# Altium schematic symbol library Logic_LevelTranslator.SchLib: 59 symbols
Pins are listed as number, name and electrical type; pins without a type are passive.

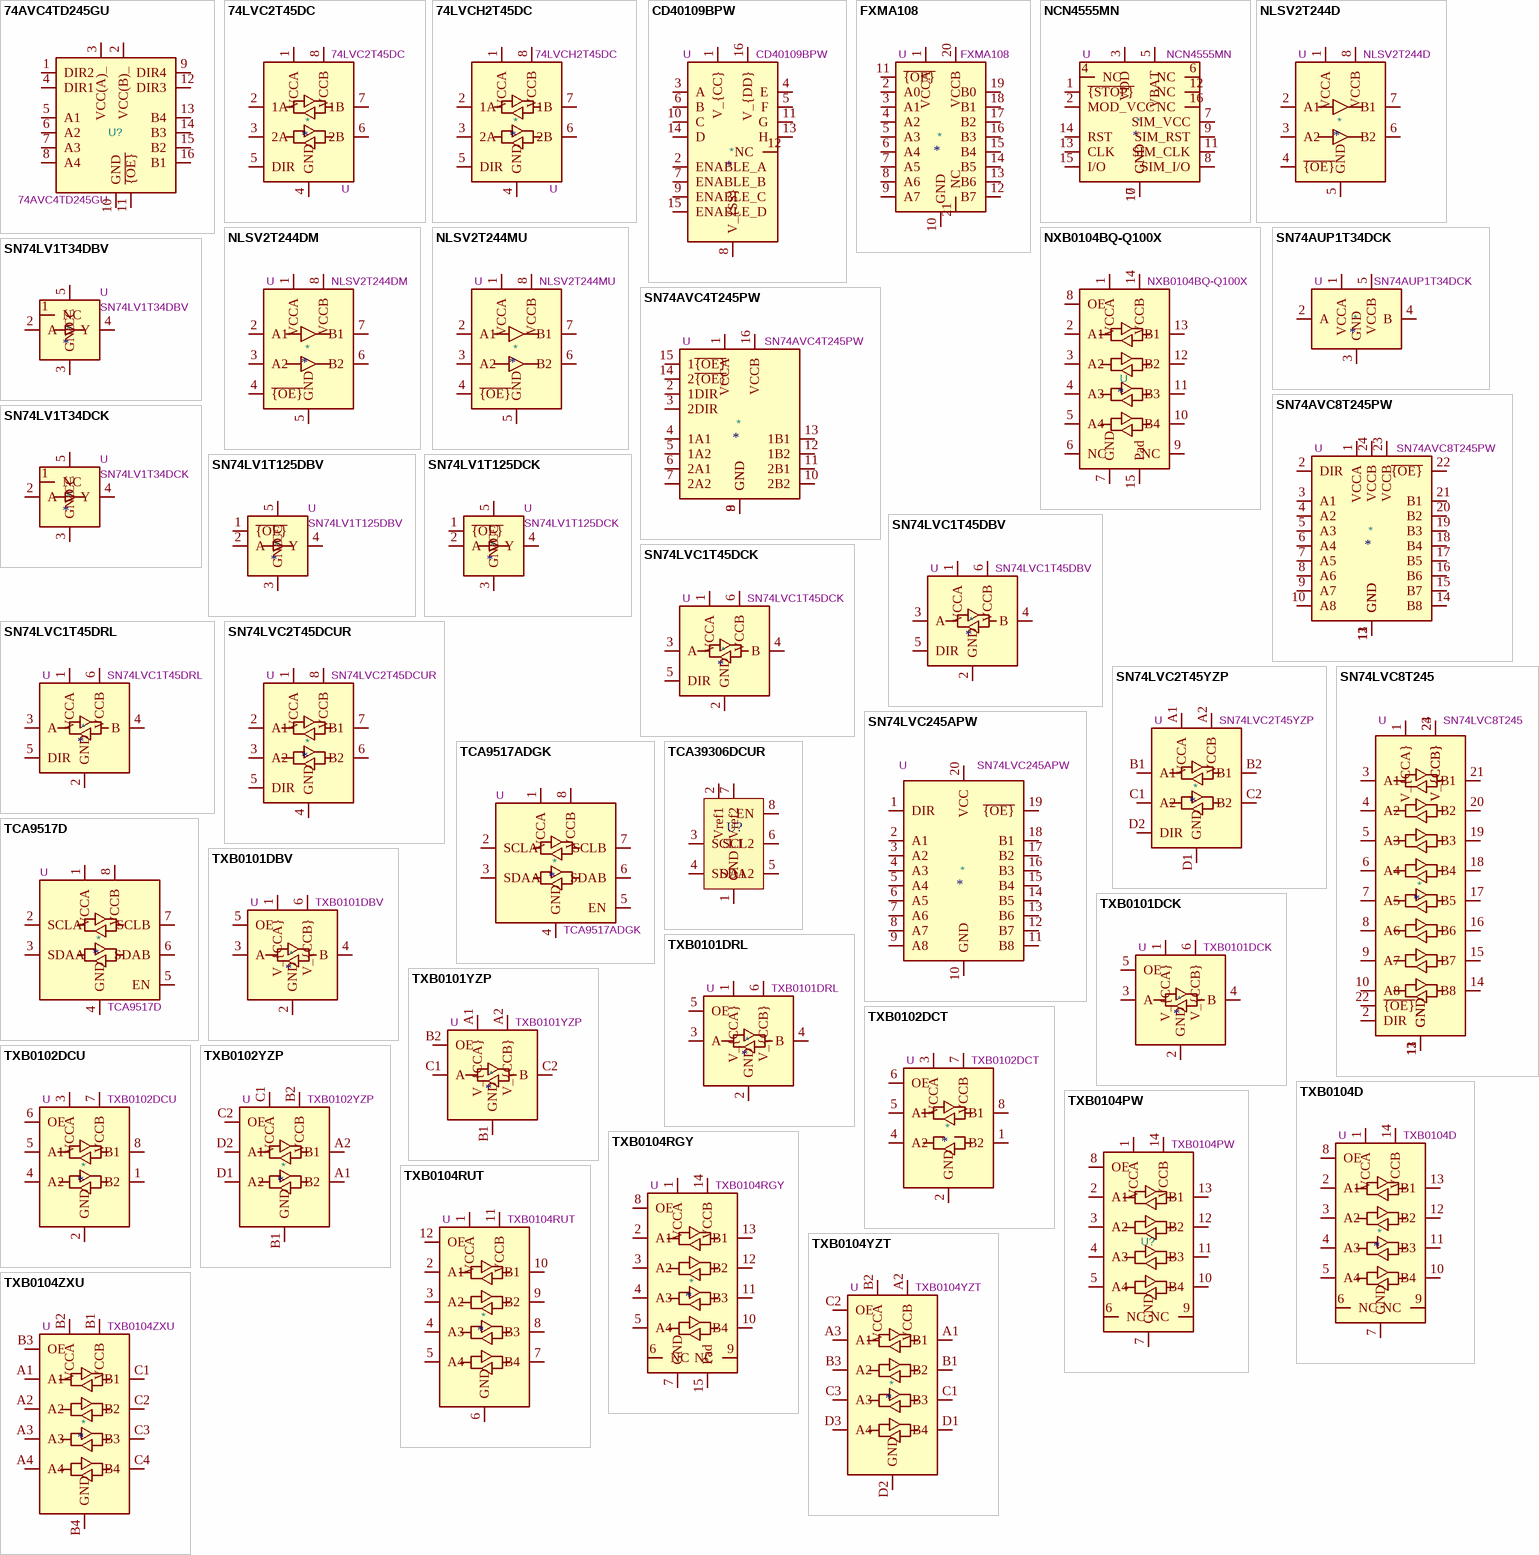
[diagram p0: symbols 74AVC4TD245GU to TXB0104ZXU]

## 74AVC4TD245GU
designator U?  value 74AVC4TD245GU  (hidden comment: *)
4-bit dual supply translating transceiver with configurable voltage translation; 3-state - XQFN16; Manufacturer: Nexperia; Manufacturer Lifecycle Status: RELEASED FOR SUPPLY; Manufacturer Part Number: 74AVC4TD245GU,115; Description_: 4-Bit Dual-Supply Bus Transceiver With Configurable Voltage Translation and 3-State Outputs, TSSOP-16; ki_keywords: Noninverting Bidirectional; ki_fp_filters: XQFN-16_2.6x1.8mm_P0.4mm; Reference: U; Channel Type: Bidirectional; Data Rate: 380Mbps; High Level Output Current: -12mA; Load Capacitance: 15pF; Logic Function: Translator; Low Level Output Current: 6mA; Max Supply Current: 100mA; Max Supply Voltage: 3.6V; Min Supply Voltage: 800mV; Nominal Supply Voltage (DC): 1.2V; Number of Bits: 4; Number of Circuits: 1; Number of Ports: 2; Propagation Delay: 10.9ns; Quiescent Current: 70µA; Footprint: Package_SO:TSSOP-16_4.4x5mm_P0.65mm; Datasheet: https://www.ti.com/lit/ds/symlink/sn74avc4t245.pdf; Category: Voltage Level Shifters; China RoHS: Compliant; Country of Origin: Thailand; Direction: Bidirectional; Harmonized Tariff Schedule (HTS) Code: 8542.39.00.60; Height - Seated (Max): 500µm; Introduction Date: 2011-05-03; Length: 2.6mm; Lifecycle Status: Production; Max Operating Temperature: 125°C; Min Operating Temperature: -40°C; Mounting Technology: Surface Mount; Pins: 16; Number of Terminals: 16; Packaging: Tape and Reel; Radiation Hardening: No; REACH SVHC: Yes; RoHS: Compliant; Schedule B: 8542390000, 8542390000|8542390000|8542390000|8542390000|8542390000; Temperature Grade: Automotive; Terminal Pitch: 400µm; Width: 1.8mm; Supplier 1: Mouser; Supplier Part Number 1: 771-74AVC4TD245GU115; Supplier Packaging 1: Tape & Reel; Supplier Unit Price 1: $0.91; Supplier Location 1: US; DNP: *
footprint XQFN-16_2.6x1.8mm_P0.4mm
pins: 1 DIR2, 2 VCC(B)_, 3 VCC(A)_, 4 DIR1, 5 A1, 6 A2, 7 A3, 8 A4, 9 DIR4, 10 GND, 11 ~{{OE}}, 12 DIR3, 13 B4, 14 B3, 15 B2, 16 B1

## 74LVC2T45DC
designator *  value 74LVC2T45DC  Reference: U
Dual supply translating transceiver, 3-state, 2-bit, VSSOP-8; ki_keywords: Level-Shifter CMOS-TTL-Translation; ki_fp_filters: VSSOP*2.3x2mm*P0.5mm*; Footprint: Package_SO:VSSOP-8_2.3x2mm_P0.5mm; Datasheet: https://assets.nexperia.com/documents/data-sheet/74LVC_LVCH2T45.pdf; Description_: Dual supply translating transceiver, 3-state, 2-bit, VSSOP-8
pins: 1 VCCA, 2 1A, 3 2A, 4 GND, 5 DIR, 6 2B, 7 1B, 8 VCCB

## 74LVCH2T45DC
designator *  value 74LVCH2T45DC  Reference: U
Dual supply translating transceiver with bus-hold for unused/floating inputs, 3-state, 2-bit, VSSOP-8; ki_keywords: Level-Shifter CMOS-TTL-Translation; ki_fp_filters: VSSOP*2.3x2mm*P0.5mm*; Footprint: Package_SO:VSSOP-8_2.3x2mm_P0.5mm; Datasheet: https://assets.nexperia.com/documents/data-sheet/74LVC_LVCH2T45.pdf; Description_: Dual supply translating transceiver with bus-hold for unused/floating inputs, 3-state, 2-bit, VSSOP-8
pins: 1 VCCA, 2 1A, 3 2A, 4 GND, 5 DIR, 6 2B, 7 1B, 8 VCCB

## CD40109BPW
designator *  value CD40109BPW  Reference: U
CMOS Quad Low to High Voltage Level Shifter, Input 3 to 18V, up to 18V output , TSSOP-16; ki_fp_filters: TSSOP*4.4x5mm*P0.65mm*; Footprint: Package_SO:TSSOP-16_4.4x5mm_P0.65mm; Datasheet: https://www.ti.com/lit/ds/symlink/cd40109b.pdf; Description_: CMOS Quad Low to High Voltage Level Shifter, Input 3 to 18V, up to 18V output , TSSOP-16; ki_keywords: voltage level shifter
pins: 1 V_{CC}, 2 ENABLE_A, 3 A, 4 E, 5 F, 6 B, 7 ENABLE_B, 8 V_{SS}, 9 ENABLE_C, 10 C, 11 G, 12 NC, 13 H, 14 D, 15 ENABLE_D, 16 V_{DD}

## FXMA108
designator *  value FXMA108  Reference: U
Dual-Supply, 8-Bit Signal Translator with Configurable Voltage Supplies and Signals Levels, 3-State Outputs and Auto Direction Sensing, WQFN-20; ki_keywords: Level shifter translator bidirectional; ki_fp_filters: WQFN*1EP*2.5x4.5mm*P0.5mm*; Footprint: Package_DFN_QFN:WQFN-20-1EP_2.5x4.5mm_P0.5mm_EP1x2.9mm; Datasheet: http://www.onsemi.com/pub/Collateral/FXMA108-D.pdf; Description_: Dual-Supply, 8-Bit Signal Translator with Configurable Voltage Supplies and Signals Levels, 3-State Outputs and Auto Direction Sensing, WQFN-20
pins: 1 VCCA, 2 A0, 3 A1, 4 A2, 5 A3, 6 A4, 7 A5, 8 A6, 9 A7, 10 GND, 11 ~{{OE}}, 12 B7, 13 B6, 14 B5, 15 B4, 16 B3, 17 B2, 18 B1, 19 B0, 20 VCCB, 21 NC

## NCN4555MN
designator *  value NCN4555MN  Reference: U
SIM Card Power Supply and Level Shifter, QFN-16; ki_keywords: SIM Card Level Shifter; ki_fp_filters: QFN*1EP*3x3mm*P0.5mm*; Footprint: Package_DFN_QFN:QFN-16-1EP_3x3mm_P0.5mm_EP1.75x1.75mm; Datasheet: https://www.onsemi.com/pub/Collateral/NCN4555-D.PDF; Description_: SIM Card Power Supply and Level Shifter, QFN-16
pins: 1 ~{{STOP}}, 2 MOD_VCC, 3 VDD, 4 NC, 5 VBAT, 6 NC, 7 SIM_VCC, 8 SIM_I/O, 9 SIM_RST, 10 GND, 11 SIM_CLK, 12 NC, 13 CLK, 14 RST, 15 I/O, 16 NC, 17 GND

## NLSV2T244D
designator *  value NLSV2T244D  Reference: U
Dual-Bit Dual-Supply Non-Inverting Level Translator, Output Enable, SOIC-8; ki_keywords: Level-Shifter CMOS-TTL-Translation; ki_fp_filters: SOIC*3.9x4.9mm*P1.27mm*; Footprint: Package_SO:SOIC-8_3.9x4.9mm_P1.27mm; Datasheet: http://www.onsemi.com/pub/Collateral/NLSV2T244-D.PDF; Description_: Dual-Bit Dual-Supply Non-Inverting Level Translator, Output Enable, SOIC-8
pins: 1 VCCA, 2 A1, 3 A2, 4 ~{{OE}}, 5 GND, 6 B2, 7 B1, 8 VCCB

## NLSV2T244DM
designator *  value NLSV2T244DM  Reference: U
Dual-Bit Dual-Supply Non-Inverting Level Translator, Output Enable, MSOP-8; ki_keywords: Level-Shifter CMOS-TTL-Translation; ki_fp_filters: MSOP*3x3mm*P0.65mm*; Footprint: Package_SO:MSOP-8_3x3mm_P0.65mm; Datasheet: http://www.onsemi.com/pub/Collateral/NLSV2T244-D.PDF; Description_: Dual-Bit Dual-Supply Non-Inverting Level Translator, Output Enable, MSOP-8
pins: 1 VCCA, 2 A1, 3 A2, 4 ~{{OE}}, 5 GND, 6 B2, 7 B1, 8 VCCB

## NLSV2T244MU
designator *  value NLSV2T244MU  Reference: U
Dual-Bit Dual-Supply Non-Inverting Level Translator, Output Enable, UDFN-8; ki_keywords: Level-Shifter CMOS-TTL-Translation; ki_fp_filters: OnSemi*UDFN*1.2x1.8mm*P0.4mm*; Footprint: Package_DFN_QFN:OnSemi_UDFN-8_1.2x1.8mm_P0.4mm; Datasheet: http://www.onsemi.com/pub/Collateral/NLSV2T244-D.PDF; Description_: Dual-Bit Dual-Supply Non-Inverting Level Translator, Output Enable, UDFN-8
pins: 1 VCCA, 2 A1, 3 A2, 4 ~{{OE}}, 5 GND, 6 B2, 7 B1, 8 VCCB

## NXB0104BQ-Q100X
designator U  value NXB0104BQ-Q100X
4-Bit Bidirectional Voltage-Level Translator, Auto Direction Sensing and ±15-kV ESD Protection, 1.2 - 3.6V APort, 1.65 - 5.5V BPort, NXB_ / DHVQFN-14; Manufacturer: Nexperia; Manufacturer Lifecycle Status: RELEASED FOR SUPPLY; Description_: 4-Bit Bidirectional Voltage-Level Translator, Auto Direction Sensing and ±15-kV ESD Protection, 1.2 - 3.6V APort, 1.65 - 5.5V BPort, Texas_PVGFN-14; ki_keywords: Level-Shifter CMOS-TTL-Translation; ki_fp_filters: Texas*S*PVQFN*N14*; Reference: U; DNP: P; Footprint: Package_DFN_QFN:Texas_S-PVQFN-N14; Datasheet: http://www.ti.com/lit/ds/symlink/txb0104.pdf; Category: Voltage Level Shifters; Lifecycle Status: Production; Manufacturer Part Number: NXB0104BQ-Q100X; RoHS: Compliant; Supplier 1: Mouser; Supplier Part Number 1: 771-NXB0104BQ-Q100X; Supplier Packaging 1: Tape & Reel; Supplier Unit Price 1: $0.73; Supplier Location 1: US
footprint DHVQFN-14-1EP_2.5x3mm_P0.5mm_EP1x1.5mm
pins: 1 VCCA, 2 A1, 3 A2, 4 A3, 5 A4, 6 NC, 7 GND, 8 OE, 9 NC, 10 B4, 11 B3, 12 B2, 13 B1, 14 VCCB, 15 Pad

## SN74AUP1T34DCK
designator *  value SN74AUP1T34DCK  Reference: U
1-Bit Unidirectional Voltage-Level Translator, SC-70; ki_keywords: Noninverting; ki_fp_filters: SOT*353*; Footprint: Package_TO_SOT_SMD:SOT-353_SC-70-5; Datasheet: http://www.ti.com/lit/ds/symlink/sn74aup1t34.pdf; Description_: 1-Bit Unidirectional Voltage-Level Translator, SC-70
pins: 1 VCCA, 2 A, 3 GND, 4 B, 5 VCCB

## SN74AVC4T245PW
designator *  value SN74AVC4T245PW  Reference: U
4-Bit Dual-Supply Bus Transceiver With Configurable Voltage Translation and 3-State Outputs, TSSOP-16; ki_keywords: Noninverting Bidirectional; ki_fp_filters: TSSOP*4.4x5mm*P0.65mm*; Footprint: Package_SO:TSSOP-16_4.4x5mm_P0.65mm; Datasheet: https://www.ti.com/lit/ds/symlink/sn74avc4t245.pdf; Description_: 4-Bit Dual-Supply Bus Transceiver With Configurable Voltage Translation and 3-State Outputs, TSSOP-16
pins: 1 VCCA, 2 1DIR, 3 2DIR, 4 1A1, 5 1A2, 6 2A1, 7 2A2, 8 GND, 9 GND, 10 2B2, 11 2B1, 12 1B2, 13 1B1, 14 2~{{OE}}, 15 1~{{OE}}, 16 VCCB

## SN74AVC8T245PW
designator *  value SN74AVC8T245PW  Reference: U
8-Bit Dual-Supply Bus Transceiver With Configurable Voltage Translation and 3-State Outputs, TSSOP-24; ki_keywords: Noninverting Bidirectional; ki_fp_filters: TSSOP*4.4x7.8mm*P0.65mm*; Footprint: Package_SO:TSSOP-24_4.4x7.8mm_P0.65mm; Datasheet: https://www.ti.com/lit/ds/symlink/sn74avc8t245.pdf; Description_: 8-Bit Dual-Supply Bus Transceiver With Configurable Voltage Translation and 3-State Outputs, TSSOP-24
pins: 1 VCCA, 2 DIR, 3 A1, 4 A2, 5 A3, 6 A4, 7 A5, 8 A6, 9 A7, 10 A8, 11 GND, 12 GND, 13 GND, 14 B8, 15 B7, 16 B6, 17 B5, 18 B4, 19 B3, 20 B2, 21 B1, 22 ~{{OE}}, 23 VCCB, 24 VCCB

## SN74LV1T34DBV
designator *  value SN74LV1T34DBV  Reference: U
Single Power Supply, Single Buffer GATE, CMOS Logic, Level Shifter, SOT-23-5; ki_keywords: single buffer level shift; ki_fp_filters: SOT?23*; Footprint: Package_TO_SOT_SMD:SOT-23-5; Datasheet: https://www.ti.com/lit/ds/symlink/sn74lv1t34.pdf; Description_: Single Power Supply, Single Buffer GATE, CMOS Logic, Level Shifter, SOT-23-5
pins: 1 NC, 2 A, 3 GND, 4 Y, 5 VCC

## SN74LV1T34DCK
designator *  value SN74LV1T34DCK  Reference: U
Single Power Supply, Single Buffer GATE, CMOS Logic, Level Shifter, SOT-353; ki_keywords: single buffer level shift; ki_fp_filters: SOT?353*; Footprint: Package_TO_SOT_SMD:SOT-353_SC-70-5; Datasheet: https://www.ti.com/lit/ds/symlink/sn74lv1t34.pdf; Description_: Single Power Supply, Single Buffer GATE, CMOS Logic, Level Shifter, SOT-353
pins: 1 NC, 2 A, 3 GND, 4 Y, 5 VCC

## SN74LV1T125DBV
designator *  value SN74LV1T125DBV  Reference: U
Single Power Supply, Single Buffer Gate with 3-State Output, CMOS Logic Level Shifter Level Shifter, SOT-23-5; ki_keywords: single buffer level shift; ki_fp_filters: SOT?23*; Footprint: Package_TO_SOT_SMD:SOT-23-5; Datasheet: https://www.ti.com/lit/ds/symlink/sn74lv1t125.pdf; Description_: Single Power Supply, Single Buffer Gate with 3-State Output, CMOS Logic Level Shifter Level Shifter, SOT-23-5
pins: 1 ~{{OE}}, 2 A, 3 GND, 4 Y, 5 VCC

## SN74LV1T125DCK
designator *  value SN74LV1T125DCK  Reference: U
Single Power Supply, Single Buffer Gate with 3-State Output, CMOS Logic Level Shifter Level Shifter, SC70-5; ki_keywords: single buffer level shift; ki_fp_filters: SOT?353*; Footprint: Package_TO_SOT_SMD:SOT-353_SC-70-5; Datasheet: https://www.ti.com/lit/ds/symlink/sn74lv1t125.pdf; Description_: Single Power Supply, Single Buffer Gate with 3-State Output, CMOS Logic Level Shifter Level Shifter, SC70-5
pins: 1 ~{{OE}}, 2 A, 3 GND, 4 Y, 5 VCC

## SN74LVC1T45DBV
designator *  value SN74LVC1T45DBV  Reference: U
Single-Bit Dual-Supply Bus Transceiver With Configurable Voltage Translation and 3-State Outputs, SOT-23-6; ki_keywords: Level-Shifter CMOS-TTL-Translation; ki_fp_filters: SOT?23*; Footprint: Package_TO_SOT_SMD:SOT-23-6; Datasheet: http://www.ti.com/lit/ds/symlink/sn74lvc1t45.pdf; Description_: Single-Bit Dual-Supply Bus Transceiver With Configurable Voltage Translation and 3-State Outputs, SOT-23-6
pins: 1 VCCA, 2 GND, 3 A, 4 B, 5 DIR, 6 VCCB

## SN74LVC1T45DCK
designator *  value SN74LVC1T45DCK  Reference: U
Single-Bit Dual-Supply Bus Transceiver With Configurable Voltage Translation and 3-State Outputs, SOT-363; ki_keywords: Level-Shifter CMOS-TTL-Translation; ki_fp_filters: *SC?70*; Footprint: Package_TO_SOT_SMD:SOT-363_SC-70-6; Datasheet: http://www.ti.com/lit/ds/symlink/sn74lvc1t45.pdf; Description_: Single-Bit Dual-Supply Bus Transceiver With Configurable Voltage Translation and 3-State Outputs, SOT-363
pins: 1 VCCA, 2 GND, 3 A, 4 B, 5 DIR, 6 VCCB

## SN74LVC1T45DRL
designator *  value SN74LVC1T45DRL  Reference: U
Single-Bit Dual-Supply Bus Transceiver With Configurable Voltage Translation and 3-State Outputs, SOT-563; ki_keywords: Level-Shifter CMOS-TTL-Translation; ki_fp_filters: *SOT?563*; Footprint: Package_TO_SOT_SMD:SOT-563; Datasheet: http://www.ti.com/lit/ds/symlink/sn74lvc1t45.pdf; Description_: Single-Bit Dual-Supply Bus Transceiver With Configurable Voltage Translation and 3-State Outputs, SOT-563
pins: 1 VCCA, 2 GND, 3 A, 4 B, 5 DIR, 6 VCCB

## SN74LVC2T45DCUR
designator *  value SN74LVC2T45DCUR  Reference: U
Dual-Bit Dual-Supply Bus Transceiver With Configurable Voltage Translation and 3-State Outputs, VSSOP-8; ki_keywords: Level-Shifter CMOS-TTL-Translation; ki_fp_filters: VSSOP*2.3x2mm*P0.5mm*; Footprint: Package_SO:VSSOP-8_2.3x2mm_P0.5mm; Datasheet: http://www.ti.com/lit/ds/symlink/sn74lvc2t45.pdf; Description_: Dual-Bit Dual-Supply Bus Transceiver With Configurable Voltage Translation and 3-State Outputs, VSSOP-8
pins: 1 VCCA, 2 A1, 3 A2, 4 GND, 5 DIR, 6 B2, 7 B1, 8 VCCB

## SN74LVC2T45YZP
designator *  value SN74LVC2T45YZP  Reference: U
Dual-Bit Dual-Supply Bus Transceiver With Configurable Voltage Translation and 3-State Outputs, DSBGA-8; ki_keywords: Level-Shifter CMOS-TTL-Translation; ki_fp_filters: Texas*DSBGA*0.9x1.9mm*Layout2x4*P0.5mm*; Footprint: Package_BGA:Texas_DSBGA-8_0.9x1.9mm_Layout2x4_P0.5mm; Datasheet: http://www.ti.com/lit/ds/symlink/sn74lvc2t45.pdf; Description_: Dual-Bit Dual-Supply Bus Transceiver With Configurable Voltage Translation and 3-State Outputs, DSBGA-8
pins: A1 VCCA, A2 VCCB, B1 A1, B2 B1, C1 A2, C2 B2, D1 GND, D2 DIR

## SN74LVC8T245
designator *  value SN74LVC8T245  Reference: U
8-Bit Dual-Supply Bus Transceiver With Configurable Voltage Translation and 3-State Outputs; ki_keywords: Dual Supply Level-Shifter CMOS-TTL-Translation; ki_fp_filters: SSOP*5.3x8.2mm* SSOP*3.9x8.7mm* TSSOP*4.4x7.8mm* TVSOP*4.4x5.0mm* Texas*VQFN*RHL*; Datasheet: https://www.ti.com/lit/ds/symlink/sn74lvc8t245.pdf; Description_: 8-Bit Dual-Supply Bus Transceiver With Configurable Voltage Translation and 3-State Outputs
pins: 1 V_{CCA}, 2 DIR, 3 A1, 4 A2, 5 A3, 6 A4, 7 A5, 8 A6, 9 A7, 10 A8, 11 GND, 12 GND, 13 GND, 14 B8, 15 B7, 16 B6, 17 B5, 18 B4, 19 B3, 20 B2, 21 B1, 22 ~{{OE}}, 23 V_{CCB}, 24 V_{CCB}

## SN74LVC245APW
designator *  value SN74LVC245APW  Reference: U
8-Bit Single-Supply Bus Transceiver With 5V tolerant input voltage and 3-State Outputs 24mA, TSSOP-20; ki_keywords: Noninverting Bidirectional; ki_fp_filters: TSSOP*4.4x6.5mm*P0.65mm*; Footprint: Package_SO:TSSOP-20_4.4x6.5mm_P0.65mm; Datasheet: https://www.ti.com/lit/ds/scas218x/scas218x.pdf; Description_: 8-Bit Single-Supply Bus Transceiver With 5V tolerant input voltage and 3-State Outputs 24mA, TSSOP-20
pins: 1 DIR, 2 A1, 3 A2, 4 A3, 5 A4, 6 A5, 7 A6, 8 A7, 9 A8, 10 GND, 11 B8, 12 B7, 13 B6, 14 B5, 15 B4, 16 B3, 17 B2, 18 B1, 19 ~{{OE}}, 20 VCC

## TCA9517ADGK
designator *  value TCA9517ADGK  Reference: U
Level-Translating I2C Bus Buffer/Repeater, VSSOP-8; ki_keywords: I2C buffer repeater; ki_fp_filters: VSSOP*3x3mm*P0.65mm*; Footprint: Package_SO:VSSOP-8_3x3mm_P0.65mm; Datasheet: https://www.ti.com/lit/ds/symlink/tca9517a.pdf; Description_: Level-Translating I2C Bus Buffer/Repeater, VSSOP-8
pins: 1 VCCA, 2 SCLA, 3 SDAA, 4 GND, 5 EN, 6 SDAB, 7 SCLB, 8 VCCB

## TCA9517D
designator *  value TCA9517D  Reference: U
Level-Translating I2C Bus Buffer/Repeater With Enable Function, SOIC-8; ki_keywords: I2C buffer repeater; ki_fp_filters: SOIC*8*3.9x4.9mm*P1.27mm*; Footprint: Package_SO:SOIC-8_3.9x4.9mm_P1.27mm; Datasheet: https://www.ti.com/lit/ds/symlink/tca9517.pdf; Description_: Level-Translating I2C Bus Buffer/Repeater With Enable Function, SOIC-8
pins: 1 VCCA, 2 SCLA, 3 SDAA, 4 GND, 5 EN, 6 SDAB, 7 SCLB, 8 VCCB

## TCA39306DCUR
designator U?  (value not drawn)
Translation - Voltage Levels FM+ I C bus and SMBu s voltage translato; Manufacturer: Texas Instruments; Manufacturer Lifecycle Status: ACTIVE; Value: TCA39306DCUR; Frequency: 12.5MHz; Max Junction Temperature (Tj): 150°C; Number of Circuits: 1; ComponentLink1Description: Datasheet; ComponentLink1URL: https://www.ti.com/lit/ds/symlink/tca39306-q1.pdf?ts=1791250636748&ref_url=https%253A%252F%252Fwww.mouser.in%252F; Ambient Temperature Range High: 125°C; Case/Package: VSSOP; Category: Voltage Level Shifters; Height: 900µm; Length: 2.3mm; Lifecycle Status: Production; Manufacturer Part Number: TCA39306DCUR; Max Operating Temperature: 125°C; Min Operating Temperature: -40°C; Number of Pins: 8; RoHS: Compliant; Thickness: 850µm; Width: 2mm; Supplier 1: DigiKey; Supplier Part Number 1: 296-TCA39306DCURCT-ND; Supplier Packaging 1: Cut Tape; Supplier Unit Price 1: $1.39; Supplier Location 1: US
footprint VSSOP-8_2.3x2mm_P0.5mm
pins: 1 GND (power), 2 Vref1, 3 SCL1, 4 SDA1, 5 SDA2, 6 SCL2, 7 Vref2, 8 EN

## TXB0101DBV
designator *  value TXB0101DBV  Reference: U
1-Bit Bidirectional Voltage-Level Translator With Auto Direction Sensing and ±15-kV ESD Protection, SOT-23-6; ki_keywords: bidirectional voltage level translator; ki_fp_filters: SOT?23?6*; Footprint: Package_TO_SOT_SMD:SOT-23-6; Datasheet: http://www.ti.com/lit/ds/symlink/txb0101.pdf; Description_: 1-Bit Bidirectional Voltage-Level Translator With Auto Direction Sensing and ±15-kV ESD Protection, SOT-23-6
pins: 1 V_{CCA}, 2 GND, 3 A, 4 B, 5 OE, 6 V_{CCB}

## TXB0101DCK
designator *  value TXB0101DCK  Reference: U
1-Bit Bidirectional Voltage-Level Translator With Auto Direction Sensing and ±15-kV ESD Protection, SC-70-6; ki_keywords: bidirectional voltage level translator; ki_fp_filters: *SC?70?6*; Footprint: Package_TO_SOT_SMD:SOT-363_SC-70-6; Datasheet: http://www.ti.com/lit/ds/symlink/txb0101.pdf; Description_: 1-Bit Bidirectional Voltage-Level Translator With Auto Direction Sensing and ±15-kV ESD Protection, SC-70-6
pins: 1 V_{CCA}, 2 GND, 3 A, 4 B, 5 OE, 6 V_{CCB}

## TXB0101DRL
designator *  value TXB0101DRL  Reference: U
1-Bit Bidirectional Voltage-Level Translator With Auto Direction Sensing and ±15-kV ESD Protection, SOT-563; ki_keywords: bidirectional voltage level translator; ki_fp_filters: SOT?563*; Footprint: Package_TO_SOT_SMD:SOT-563; Datasheet: http://www.ti.com/lit/ds/symlink/txb0101.pdf; Description_: 1-Bit Bidirectional Voltage-Level Translator With Auto Direction Sensing and ±15-kV ESD Protection, SOT-563
pins: 1 V_{CCA}, 2 GND, 3 A, 4 B, 5 OE, 6 V_{CCB}

## TXB0101YZP
designator *  value TXB0101YZP  Reference: U
1-Bit Bidirectional Voltage-Level Translator With Auto Direction Sensing and ±15-kV ESD Protection, DSBGA-6; ki_keywords: bidirectional voltage level translator; ki_fp_filters: *DSBGA?6*; Footprint: Package_BGA:Texas_DSBGA-6_0.9x1.4mm_Layout2x3_P0.5mm; Datasheet: http://www.ti.com/lit/ds/symlink/txb0101.pdf; Description_: 1-Bit Bidirectional Voltage-Level Translator With Auto Direction Sensing and ±15-kV ESD Protection, DSBGA-6
pins: A1 V_{CCA}, A2 V_{CCB}, B1 GND, B2 OE, C1 A, C2 B

## TXB0102DCT
designator *  value TXB0102DCT  Reference: U
2-Bit Bidirectional Voltage-Level Translator With Auto Direction Sensing and ±15-kV ESD Protection, TSSOP-8; ki_keywords: Level-Shifter CMOS-TTL-Translation; ki_fp_filters: TSSOP*P0.65mm*; Footprint: Package_SO:TSSOP-8_3x3mm_P0.65mm; Datasheet: http://www.ti.com/lit/ds/symlink/txb0102.pdf; Description_: 2-Bit Bidirectional Voltage-Level Translator With Auto Direction Sensing and ±15-kV ESD Protection, TSSOP-8
pins: 1 B2, 2 GND, 3 VCCA, 4 A2, 5 A1, 6 OE, 7 VCCB, 8 B1

## TXB0102DCU
designator *  value TXB0102DCU  Reference: U
2-Bit Bidirectional Voltage-Level Translator With Auto Direction Sensing and ±15-kV ESD Protection, VSSOP-8; ki_keywords: Level-Shifter CMOS-TTL-Translation; ki_fp_filters: VSSOP*2.3x2mm*P0.5mm*; Footprint: Package_SO:VSSOP-8_2.3x2mm_P0.5mm; Datasheet: http://www.ti.com/lit/ds/symlink/txb0102.pdf; Description_: 2-Bit Bidirectional Voltage-Level Translator With Auto Direction Sensing and ±15-kV ESD Protection, VSSOP-8
pins: 1 B2, 2 GND, 3 VCCA, 4 A2, 5 A1, 6 OE, 7 VCCB, 8 B1

## TXB0102YZP
designator *  value TXB0102YZP  Reference: U
2-Bit Bidirectional Voltage-Level Translator With Auto Direction Sensing and ±15-kV ESD Protection, DSBGA-8; ki_keywords: Level-Shifter CMOS-TTL-Translation; ki_fp_filters: Texas*DSBGA*0.9x1.9mm*Layout2x4*P0.5mm*; Footprint: Package_BGA:Texas_DSBGA-8_0.9x1.9mm_Layout2x4_P0.5mm; Datasheet: http://www.ti.com/lit/ds/symlink/txb0102.pdf; Description_: 2-Bit Bidirectional Voltage-Level Translator With Auto Direction Sensing and ±15-kV ESD Protection, DSBGA-8
pins: A1 B2, A2 B1, B1 GND, B2 VCCB, C1 VCCA, C2 OE, D1 A2, D2 A1

## TXB0104D
designator *  value TXB0104D  Reference: U
4-Bit Bidirectional Voltage-Level Translator, Auto Direction Sensing and ±15-kV ESD Protection, 1.2 - 3.6V APort, 1.65 - 5.5V BPort, SOIC-14; ki_keywords: Level-Shifter CMOS-TTL-Translation; ki_fp_filters: SOIC*14*7mm*P1.27mm*; Footprint: Package_SO:SOIC-14_3.9x8.7mm_P1.27mm; Datasheet: http://www.ti.com/lit/ds/symlink/txb0104.pdf; Description_: 4-Bit Bidirectional Voltage-Level Translator, Auto Direction Sensing and ±15-kV ESD Protection, 1.2 - 3.6V APort, 1.65 - 5.5V BPort, SOIC-14
pins: 1 VCCA, 2 A1, 3 A2, 4 A3, 5 A4, 6 NC, 7 GND, 8 OE, 9 NC, 10 B4, 11 B3, 12 B2, 13 B1, 14 VCCB

## TXB0104PW
designator U?  value TXB0104PW  (hidden comment: *)
4-Bit Bidirectional Voltage-Level Translator, Auto Direction Sensing and ±15-kV ESD Protection, 1.2 - 3.6V APort, 1.65 - 5.5V BPort, TSSOP-14; Manufacturer: Texas Instruments; Manufacturer Lifecycle Status: ACTIVE; Manufacturer Part Number: TXB0104PWR; ki_keywords: Level-Shifter CMOS-TTL-Translation; ki_fp_filters: TSSOP*14*5mm*P0.65mm*; Reference: U; Data Rate: 100Mbps; High Level Output Current: -20µA; Low Level Output Current: 20µA; Max Junction Temperature (Tj): 150°C; Min Supply Voltage: 1.2V; Nominal Supply Current: 5µA; Number of Bits: 4; Number of Circuits: 1; Propagation Delay: 4ns; Quiescent Current: 3.5µA; Rise Time: 700ps; Topology: Push-Pull; Turn-On Delay Time: 31ns; DNP: P; Footprint: Package_SO:TSSOP-14_4.4x5mm_P0.65mm; Datasheet: http://www.ti.com/lit/ds/symlink/txb0104.pdf; Description_: 4-Bit Bidirectional Voltage-Level Translator, Auto Direction Sensing and ±15-kV ESD Protection, 1.2 - 3.6V APort, 1.65 - 5.5V BPort, TSSOP-14; Ambient Temperature Range High: 85°C; Case/Package: TSSOP; Category: Voltage Level Shifters; Height: 0m; Lead Free: Lead Free; Length: 5mm; Lifecycle Status: Production; Logic Function: Translator; Max Operating Temperature: 85°C; Max Supply Voltage: 5.5V; Min Operating Temperature: -40°C; Min Supply Voltage (DC): 1.2V; Mount: Surface Mount; Number of Channels: 4; Number of Inputs: 4; Number of Outputs: 4; Number of Pins: 14; Output Current: 20µA; Radiation Hardening: No; REACH SVHC: No; RoHS: Compliant; Schedule B: 8542390000, 8542390000|8542390000|8542390000|8542390000|8542390000; Thickness: 1mm; Weight: 57.209338mg; Width: 4.4mm; Supplier 1: Mouser; Supplier Part Number 1: 595-TXB0104PWR; Supplier Packaging 1: Tape & Reel; Supplier Unit Price 1: $1.03; Supplier Location 1: US; Manufacturer Part Number 2: NXB0104PWJ; Manufacturer 2: Nexperia
footprint TSSOP-14_4.4x5mm_P0.65mm
pins: 1 VCCA, 2 A1, 3 A2, 4 A3, 5 A4, 6 NC, 7 GND, 8 OE, 9 NC, 10 B4, 11 B3, 12 B2, 13 B1, 14 VCCB

## TXB0104RGY
designator *  value TXB0104RGY  Reference: U
4-Bit Bidirectional Voltage-Level Translator, Auto Direction Sensing and ±15-kV ESD Protection, 1.2 - 3.6V APort, 1.65 - 5.5V BPort, Texas_PVGFN-14; ki_keywords: Level-Shifter CMOS-TTL-Translation; ki_fp_filters: Texas*S*PVQFN*N14*; Footprint: Package_DFN_QFN:Texas_S-PVQFN-N14; Datasheet: http://www.ti.com/lit/ds/symlink/txb0104.pdf; Description_: 4-Bit Bidirectional Voltage-Level Translator, Auto Direction Sensing and ±15-kV ESD Protection, 1.2 - 3.6V APort, 1.65 - 5.5V BPort, Texas_PVGFN-14
pins: 1 VCCA, 2 A1, 3 A2, 4 A3, 5 A4, 6 NC, 7 GND, 8 OE, 9 NC, 10 B4, 11 B3, 12 B2, 13 B1, 14 VCCB, 15 Pad

## TXB0104RUT
designator *  value TXB0104RUT  Reference: U
4-Bit Bidirectional Voltage-Level Translator, Auto Direction Sensing and ±15-kV ESD Protection, 1.2 - 3.6V APort, 1.65 - 5.5V BPort, Texas_PUQFN-12; ki_keywords: Level-Shifter CMOS-TTL-Translation; ki_fp_filters: Texas*R*PUQFN*N12*; Footprint: Package_DFN_QFN:Texas_R-PUQFN-N12; Datasheet: http://www.ti.com/lit/ds/symlink/txb0104.pdf; Description_: 4-Bit Bidirectional Voltage-Level Translator, Auto Direction Sensing and ±15-kV ESD Protection, 1.2 - 3.6V APort, 1.65 - 5.5V BPort, Texas_PUQFN-12
pins: 1 VCCA, 2 A1, 3 A2, 4 A3, 5 A4, 6 GND, 7 B4, 8 B3, 9 B2, 10 B1, 11 VCCB, 12 OE

## TXB0104YZT
designator *  value TXB0104YZT  Reference: U
4-Bit Bidirectional Voltage-Level Translator, Auto Direction Sensing and ±15-kV ESD Protection, 1.2 - 3.6V APort, 1.65 - 5.5V BPort, DSBGA-12; ki_keywords: Level-Shifter CMOS-TTL-Translation; ki_fp_filters: Texas*DSBGA*1.36x1.86mm*Layout3x4*P0.5mm*; Footprint: Package_BGA:Texas_DSBGA-12_1.36x1.86mm_Layout3x4_P0.5mm; Datasheet: http://www.ti.com/lit/ds/symlink/txb0104.pdf; Description_: 4-Bit Bidirectional Voltage-Level Translator, Auto Direction Sensing and ±15-kV ESD Protection, 1.2 - 3.6V APort, 1.65 - 5.5V BPort, DSBGA-12
pins: A1 B1, A2 VCCB, A3 A1, B1 B2, B2 VCCA, B3 A2, C1 B3, C2 OE, C3 A3, D1 B4, D2 GND, D3 A4

## TXB0104ZXU
designator *  value TXB0104ZXU  Reference: U
4-Bit Bidirectional Voltage-Level Translator, Auto Direction Sensing and ±15-kV ESD Protection, 1.2 - 3.6V APort, 1.65 - 5.5V BPort, Texas_Junior-12; ki_keywords: Level-Shifter CMOS-TTL-Translation; ki_fp_filters: Texas*Junior*BGA*2.0x2.5mm*Layout4x3*P0.5mm*; Footprint: Package_BGA:Texas_MicroStar_Junior_BGA-12_2.0x2.5mm_Layout4x3_P0.5mm; Datasheet: http://www.ti.com/lit/ds/symlink/txb0104.pdf; Description_: 4-Bit Bidirectional Voltage-Level Translator, Auto Direction Sensing and ±15-kV ESD Protection, 1.2 - 3.6V APort, 1.65 - 5.5V BPort, Texas_Junior-12
pins: A1, A2, A3, A4, B1 VCCB, B2 VCCA, B3 OE, B4 GND, C1 B1, C2 B2, C3 B3, C4 B4

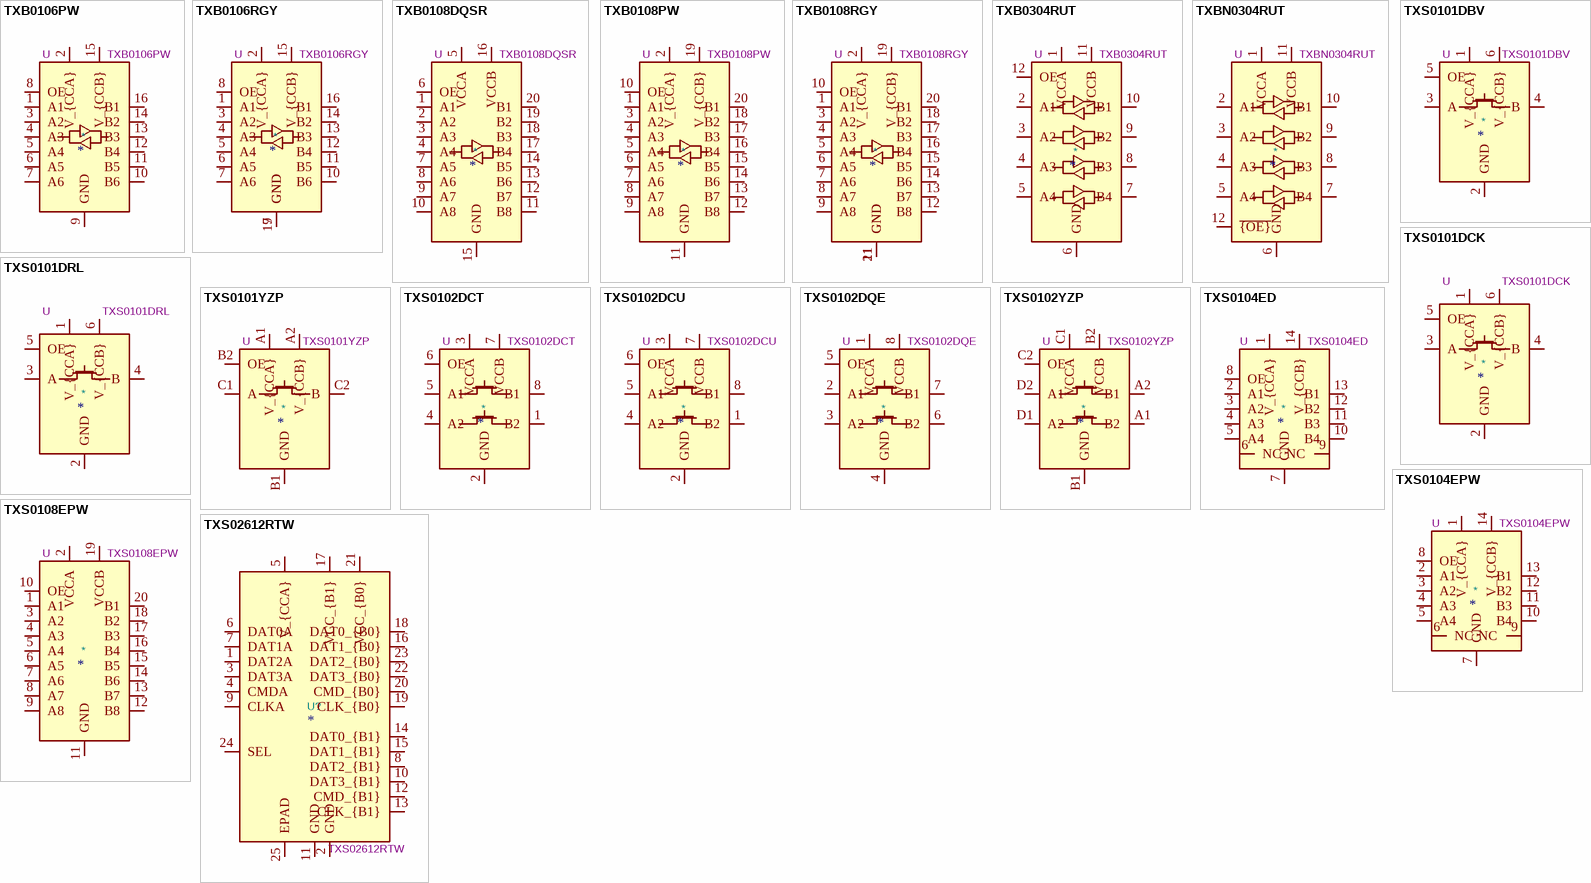
[diagram p1: symbols TXB0106PW to TXS02612RTW]

## TXB0106PW
designator *  value TXB0106PW  Reference: U
6-Bit Bidirectional Voltage-Level Translator, Auto Direction Sensing and ±15-kV ESD Protection, 1.2 - 3.6V APort, 1.65 - 5.5V BPort, TSSOP-16; ki_keywords: bidirectional voltage level translator; ki_fp_filters: TSSOP*4.4x5mm*P0.65mm*; Footprint: Package_SO:TSSOP-16_4.4x5mm_P0.65mm; Datasheet: http://www.ti.com/lit/ds/symlink/txb0106.pdf; Description_: 6-Bit Bidirectional Voltage-Level Translator, Auto Direction Sensing and ±15-kV ESD Protection, 1.2 - 3.6V APort, 1.65 - 5.5V BPort, TSSOP-16
pins: 1 A1, 2 V_{CCA}, 3 A2, 4 A3, 5 A4, 6 A5, 7 A6, 8 OE, 9 GND, 10 B6, 11 B5, 12 B4, 13 B3, 14 B2, 15 V_{CCB}, 16 B1

## TXB0106RGY
designator *  value TXB0106RGY  Reference: U
6-Bit Bidirectional Voltage-Level Translator, Auto Direction Sensing and ±15-kV ESD Protection, 1.2 - 3.6V APort, 1.65 - 5.5V BPort, VQFN-16; ki_keywords: bidirectional voltage level translator; ki_fp_filters: *RGY*PVQFN*; Footprint: Package_DFN_QFN:Texas_RGY_R-PVQFN-N16_EP2.05x2.55mm; Datasheet: http://www.ti.com/lit/ds/symlink/txb0106.pdf; Description_: 6-Bit Bidirectional Voltage-Level Translator, Auto Direction Sensing and ±15-kV ESD Protection, 1.2 - 3.6V APort, 1.65 - 5.5V BPort, VQFN-16
pins: 1 A1, 2 V_{CCA}, 3 A2, 4 A3, 5 A4, 6 A5, 7 A6, 8 OE, 9 GND, 10 B6, 11 B5, 12 B4, 13 B3, 14 B2, 15 V_{CCB}, 16 B1, 17 GND

## TXB0108DQSR
designator *  value TXB0108DQSR  Reference: U
8-Bit Bidirectional Voltage-Level Translator, Auto Direction Sensing and ±15-kV ESD Protection, 1.2 - 3.6V APort, 1.65 - 5.5V BPort, USON-20; ki_keywords: bidirectional voltage level translator; ki_fp_filters: USON*2x4mm*P0.4mm*; Footprint: Package_SON:USON-20_2x4mm_P0.4mm; Datasheet: http://www.ti.com/lit/ds/symlink/txb0108.pdf; Description_: 8-Bit Bidirectional Voltage-Level Translator, Auto Direction Sensing and ±15-kV ESD Protection, 1.2 - 3.6V APort, 1.65 - 5.5V BPort, USON-20
pins: 1 A1, 2 A2, 3 A3, 4 A4, 5 VCCA, 6 OE, 7 A5, 8 A6, 9 A7, 10 A8, 11 B8, 12 B7, 13 B6, 14 B5, 15 GND, 16 VCCB, 17 B4, 18 B3, 19 B2, 20 B1

## TXB0108PW
designator *  value TXB0108PW  Reference: U
8-Bit Bidirectional Voltage-Level Translator, Auto Direction Sensing and ±15-kV ESD Protection, 1.2 - 3.6V APort, 1.65 - 5.5V BPort, TSSOP-20; ki_keywords: bidirectional voltage level translator; ki_fp_filters: TSSOP*4.4x6.5mm*P0.65mm*; Footprint: Package_SO:TSSOP-20_4.4x6.5mm_P0.65mm; Datasheet: http://www.ti.com/lit/ds/symlink/txb0108.pdf; Description_: 8-Bit Bidirectional Voltage-Level Translator, Auto Direction Sensing and ±15-kV ESD Protection, 1.2 - 3.6V APort, 1.65 - 5.5V BPort, TSSOP-20
pins: 1 A1, 2 V_{CCA}, 3 A2, 4 A3, 5 A4, 6 A5, 7 A6, 8 A7, 9 A8, 10 OE, 11 GND, 12 B8, 13 B7, 14 B6, 15 B5, 16 B4, 17 B3, 18 B2, 19 V_{CCB}, 20 B1

## TXB0108RGY
designator *  value TXB0108RGY  Reference: U
8-Bit Bidirectional Voltage-Level Translator, Auto Direction Sensing and ±15-kV ESD Protection, 1.2 - 3.6V APort, 1.65 - 5.5V BPort, VQFN-20; ki_keywords: bidirectional voltage level translator; ki_fp_filters: *RGY*PVQFN*; Footprint: Package_DFN_QFN:Texas_RGY_R-PVQFN-N20_EP2.05x3.05mm; Datasheet: http://www.ti.com/lit/ds/symlink/txb0108.pdf; Description_: 8-Bit Bidirectional Voltage-Level Translator, Auto Direction Sensing and ±15-kV ESD Protection, 1.2 - 3.6V APort, 1.65 - 5.5V BPort, VQFN-20
pins: 1 A1, 2 V_{CCA}, 3 A2, 4 A3, 5 A4, 6 A5, 7 A6, 8 A7, 9 A8, 10 OE, 11 GND, 12 B8, 13 B7, 14 B6, 15 B5, 16 B4, 17 B3, 18 B2, 19 V_{CCB}, 20 B1, 21 GND

## TXB0304RUT
designator *  value TXB0304RUT  Reference: U
4-Bit Bidirectional Voltage-Level Translator, Auto Direction Sensing, 0.9 - 3.6V APort, 0.9 - 3.6V BPort, Active High Output Enable, Texas_PUQFN-12; ki_keywords: Level-Shifter CMOS-TTL-Translation; ki_fp_filters: Texas*R*PUQFN*N12*; Footprint: Package_DFN_QFN:Texas_R-PUQFN-N12; Datasheet: http://www.ti.com/lit/ds/symlink/txb0304.pdf; Description_: 4-Bit Bidirectional Voltage-Level Translator, Auto Direction Sensing, 0.9 - 3.6V APort, 0.9 - 3.6V BPort, Active High Output Enable, Texas_PUQFN-12
pins: 1 VCCA, 2 A1, 3 A2, 4 A3, 5 A4, 6 GND, 7 B4, 8 B3, 9 B2, 10 B1, 11 VCCB, 12 OE

## TXBN0304RUT
designator *  value TXBN0304RUT  Reference: U
4-Bit Bidirectional Voltage-Level Translator, Auto Direction Sensing, 0.9 - 3.6V APort, 0.9 - 3.6V BPort, Active Low Output Enable, Texas_PUQFN-12; ki_keywords: Level-Shifter CMOS-TTL-Translation; ki_fp_filters: Texas*R*PUQFN*N12*; Footprint: Package_DFN_QFN:Texas_R-PUQFN-N12; Datasheet: http://www.ti.com/lit/ds/symlink/txb0304.pdf; Description_: 4-Bit Bidirectional Voltage-Level Translator, Auto Direction Sensing, 0.9 - 3.6V APort, 0.9 - 3.6V BPort, Active Low Output Enable, Texas_PUQFN-12
pins: 1 VCCA, 2 A1, 3 A2, 4 A3, 5 A4, 6 GND, 7 B4, 8 B3, 9 B2, 10 B1, 11 VCCB, 12 ~{{OE}}

## TXS0101DBV
designator *  value TXS0101DBV  Reference: U
1-Bit Bidirectional Voltage-Level Shifter for Open-Drain and Push-Pull Application, SOT-23; ki_keywords: Level-Shifter CMOS-TTL-Translation; ki_fp_filters: SOT?23*; Footprint: Package_TO_SOT_SMD:SOT-23-6; Datasheet: https://www.ti.com/lit/ds/symlink/txs0101.pdf; Description_: 1-Bit Bidirectional Voltage-Level Shifter for Open-Drain and Push-Pull Application, SOT-23
pins: 1 V_{CCA}, 2 GND, 3 A, 4 B, 5 OE, 6 V_{CCB}

## TXS0101DCK
designator *  value TXS0101DCK  Reference: U
1-Bit Bidirectional Voltage-Level Shifter for Open-Drain and Push-Pull Application, SOT-363; ki_keywords: Level-Shifter CMOS-TTL-Translation; ki_fp_filters: SOT?363*; Footprint: Package_TO_SOT_SMD:SOT-363_SC-70-6; Datasheet: https://www.ti.com/lit/ds/symlink/txs0101.pdf; Description_: 1-Bit Bidirectional Voltage-Level Shifter for Open-Drain and Push-Pull Application, SOT-363
pins: 1 V_{CCA}, 2 GND, 3 A, 4 B, 5 OE, 6 V_{CCB}

## TXS0101DRL
designator *  value TXS0101DRL  Reference: U
1-Bit Bidirectional Voltage-Level Shifter for Open-Drain and Push-Pull Application, SOT-563; ki_keywords: Level-Shifter CMOS-TTL-Translation; ki_fp_filters: SOT?563*; Footprint: Package_TO_SOT_SMD:SOT-563; Datasheet: https://www.ti.com/lit/ds/symlink/txs0101.pdf; Description_: 1-Bit Bidirectional Voltage-Level Shifter for Open-Drain and Push-Pull Application, SOT-563
pins: 1 V_{CCA}, 2 GND, 3 A, 4 B, 5 OE, 6 V_{CCB}

## TXS0101YZP
designator *  value TXS0101YZP  Reference: U
1-Bit Bidirectional Voltage-Level Shifter for Open-Drain and Push-Pull Application, Texas DSBGA-6; ki_keywords: Level-Shifter CMOS-TTL-Translation; ki_fp_filters: Texas*DSBGA*0.9x1.4mm*Layout2x3*P0.5mm*; Footprint: Package_BGA:Texas_DSBGA-6_0.9x1.4mm_Layout2x3_P0.5mm; Datasheet: https://www.ti.com/lit/ds/symlink/txs0101.pdf; Description_: 1-Bit Bidirectional Voltage-Level Shifter for Open-Drain and Push-Pull Application, Texas DSBGA-6
pins: A1 V_{CCA}, A2 V_{CCB}, B1 GND, B2 OE, C1 A, C2 B

## TXS0102DCT
designator *  value TXS0102DCT  Reference: U
2-Bit Bidirectional Voltage-Level Shifter for Open-Drain and Push-Pull Application, SSOP-8; ki_keywords: Level-Shifter CMOS-TTL-Translation; ki_fp_filters: SSOP*2.95x2.8mm*P0.65mm*; Footprint: Package_SO:SSOP-8_2.95x2.8mm_P0.65mm; Datasheet: http://www.ti.com/lit/gpn/txs0102; Description_: 2-Bit Bidirectional Voltage-Level Shifter for Open-Drain and Push-Pull Application, SSOP-8
pins: 1 B2, 2 GND, 3 VCCA, 4 A2, 5 A1, 6 OE, 7 VCCB, 8 B1

## TXS0102DCU
designator *  value TXS0102DCU  Reference: U
2-Bit Bidirectional Voltage-Level Shifter for Open-Drain and Push-Pull Application, VSSOP-8; ki_keywords: Level-Shifter CMOS-TTL-Translation; ki_fp_filters: VSSOP*2.3x2mm*P0.5mm*; Footprint: Package_SO:VSSOP-8_2.3x2mm_P0.5mm; Datasheet: http://www.ti.com/lit/gpn/txs0102; Description_: 2-Bit Bidirectional Voltage-Level Shifter for Open-Drain and Push-Pull Application, VSSOP-8
pins: 1 B2, 2 GND, 3 VCCA, 4 A2, 5 A1, 6 OE, 7 VCCB, 8 B1

## TXS0102DQE
designator *  value TXS0102DQE  Reference: U
2-Bit Bidirectional Voltage-Level Shifter for Open-Drain and Push-Pull Application, X2SON-8; ki_keywords: Level-Shifter CMOS-TTL-Translation; ki_fp_filters: X2SON*1.4x1mm*P0.35mm*; Footprint: Package_SON:X2SON-8_1.4x1mm_P0.35mm; Datasheet: http://www.ti.com/lit/gpn/txs0102; Description_: 2-Bit Bidirectional Voltage-Level Shifter for Open-Drain and Push-Pull Application, X2SON-8
pins: 1 VCCA, 2 A1, 3 A2, 4 GND, 5 OE, 6 B2, 7 B1, 8 VCCB

## TXS0102YZP
designator *  value TXS0102YZP  Reference: U
2-Bit Bidirectional Voltage-Level Shifter for Open-Drain and Push-Pull Application, DSBGA-8; ki_keywords: Level-Shifter CMOS-TTL-Translation; ki_fp_filters: Texas*DSBGA*0.9x1.9mm*Layout2x4*P0.5mm*; Footprint: Package_BGA:Texas_DSBGA-8_0.9x1.9mm_Layout2x4_P0.5mm; Datasheet: http://www.ti.com/lit/gpn/txs0102; Description_: 2-Bit Bidirectional Voltage-Level Shifter for Open-Drain and Push-Pull Application, DSBGA-8
pins: A1 B2, A2 B1, B1 GND, B2 VCCB, C1 VCCA, C2 OE, D1 A2, D2 A1

## TXS0104ED
designator *  value TXS0104ED  Reference: U
Bidirectional  level-shifting voltage translator, SOIC-14; ki_keywords: 4-bit; ki_fp_filters: SOIC*3.9x8.7mm*P1.27mm*; Footprint: Package_SO:SOIC-14_3.9x8.7mm_P1.27mm; Datasheet: www.ti.com/lit/ds/symlink/txs0104e.pdf; Description_: Bidirectional  level-shifting voltage translator, SOIC-14
pins: 1 V_{CCA}, 2 A1, 3 A2, 4 A3, 5 A4, 6 NC, 7 GND, 8 OE, 9 NC, 10 B4, 11 B3, 12 B2, 13 B1, 14 V_{CCB}

## TXS0104EPW
designator *  value TXS0104EPW  Reference: U
Bidirectional  level-shifting voltage translator, TSSOP-14; ki_keywords: 4-bit; ki_fp_filters: TSSOP*4.4x5mm*P0.65mm*; Footprint: Package_SO:TSSOP-14_4.4x5mm_P0.65mm; Datasheet: www.ti.com/lit/ds/symlink/txs0104e.pdf; Description_: Bidirectional  level-shifting voltage translator, TSSOP-14
pins: 1 V_{CCA}, 2 A1, 3 A2, 4 A3, 5 A4, 6 NC, 7 GND, 8 OE, 9 NC, 10 B4, 11 B3, 12 B2, 13 B1, 14 V_{CCB}

## TXS0108EPW
designator *  value TXS0108EPW  Reference: U
Bidirectional  level-shifting voltage translator, TSSOP-20; ki_keywords: 8-bit; ki_fp_filters: *SSOP*4.4x6.5mm*P0.65mm*; Footprint: Package_SO:TSSOP-20_4.4x6.5mm_P0.65mm; Datasheet: www.ti.com/lit/ds/symlink/txs0108e.pdf; Description_: Bidirectional  level-shifting voltage translator, TSSOP-20
pins: 1 A1, 2 VCCA, 3 A2, 4 A3, 5 A4, 6 A5, 7 A6, 8 A7, 9 A8, 10 OE, 11 GND, 12 B8, 13 B7, 14 B6, 15 B5, 16 B4, 17 B3, 18 B2, 19 VCCB, 20 B1

## TXS02612RTW
designator U?  value TXS02612RTW
SDIO port expander with voltage-level translation, 6:12 Demultiplexer/Multiplexer, 1.1V to 3.6V supply range, QFN-24; Manufacturer: Texas Instruments; Manufacturer Lifecycle Status: ACTIVE; Manufacturer Part Number: TXS02612RTWR; ki_keywords: SDIO level translator; ki_fp_filters: *WQFN*24*4x4mm*; Reference: U; Frequency: 60MHz; Number of Bits: 4; Number of Channels: 6; Number of Outputs: 12; Operating Supply Current: 36µA; Topology: Push-Pull; Footprint: Package_DFN_QFN:WQFN-24-1EP_4x4mm_P0.5mm_EP2.45x2.45mm_ThermalVias; Datasheet: https://www.ti.com/lit/gpn/TXS02612; Description_: SDIO port expander with voltage-level translation, 6:12 Demultiplexer/Multiplexer, 1.1V to 3.6V supply range, QFN-24; Ambient Temperature Range High: 85°C; Category: I/O Expanders; Contact Plating: Gold; Height: 800µm; Interface: SDIO; Lead Free: Lead Free; Length: 4mm; Lifecycle Status: Production; Max Operating Temperature: 85°C; Max Supply Voltage: 3.6V; Min Operating Temperature: -40°C; Min Supply Voltage: 1.1V; Mount: Surface Mount; Number of Pins: 24; Radiation Hardening: No; REACH SVHC: Unaffected; RoHS: Compliant; Schedule B: 8542390000, 8542390000|8542390000|8542390000|8542390000|8542390000; Thickness: 750µm; Width: 4mm; Supplier 1: Mouser; Supplier Part Number 1: 595-TXS02612RTWR; Supplier Packaging 1: Tape & Reel; Supplier Unit Price 1: $1.78; Supplier Location 1: US
footprint QFN-24-1EP_4x4mm_P0.5mm_EP2.15x2.15mm_ThermalVias
pins: 1 DAT2A, 2 GND, 3 DAT3A, 4 CMDA, 5 V_{CCA}, 6 DAT0A, 7 DAT1A, 8 DAT2_{B1}, 9 CLKA, 10 DAT3_{B1}, 11 GND, 12 CMD_{B1}, 13 CLK_{B1}, 14 DAT0_{B1}, 15 DAT1_{B1}, 16 DAT1_{B0}, 17 VCC_{B1}, 18 DAT0_{B0}, 19 CLK_{B0}, 20 CMD_{B0}, 21 VCC_{B0}, 22 DAT3_{B0}, 23 DAT2_{B0}, 24 SEL, 25 EPAD